# Altium schematic symbol library Shield_Clip.Schlib: 1 symbol
Pins are listed as number, name and electrical type; pins without a type are passive.

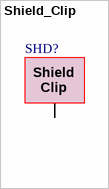
[diagram p0: symbol Shield_Clip]

## Shield_Clip
designator SHD?
Shield Connector / Shield Clip
pins: 1
text: Shield; Clip